# Altium footprint library Relay.PcbLib: 14 footprints
Each footprint in its own frame and in the unit in brackets; x right, y up, seen from the top. Pads: shape width x height; smd on the part's side, far side on the other; paste and mask are expansions set on the pad; w line width, h text height; cw(c..) or ccw(c..) is an arc to the next point about the centre after c.
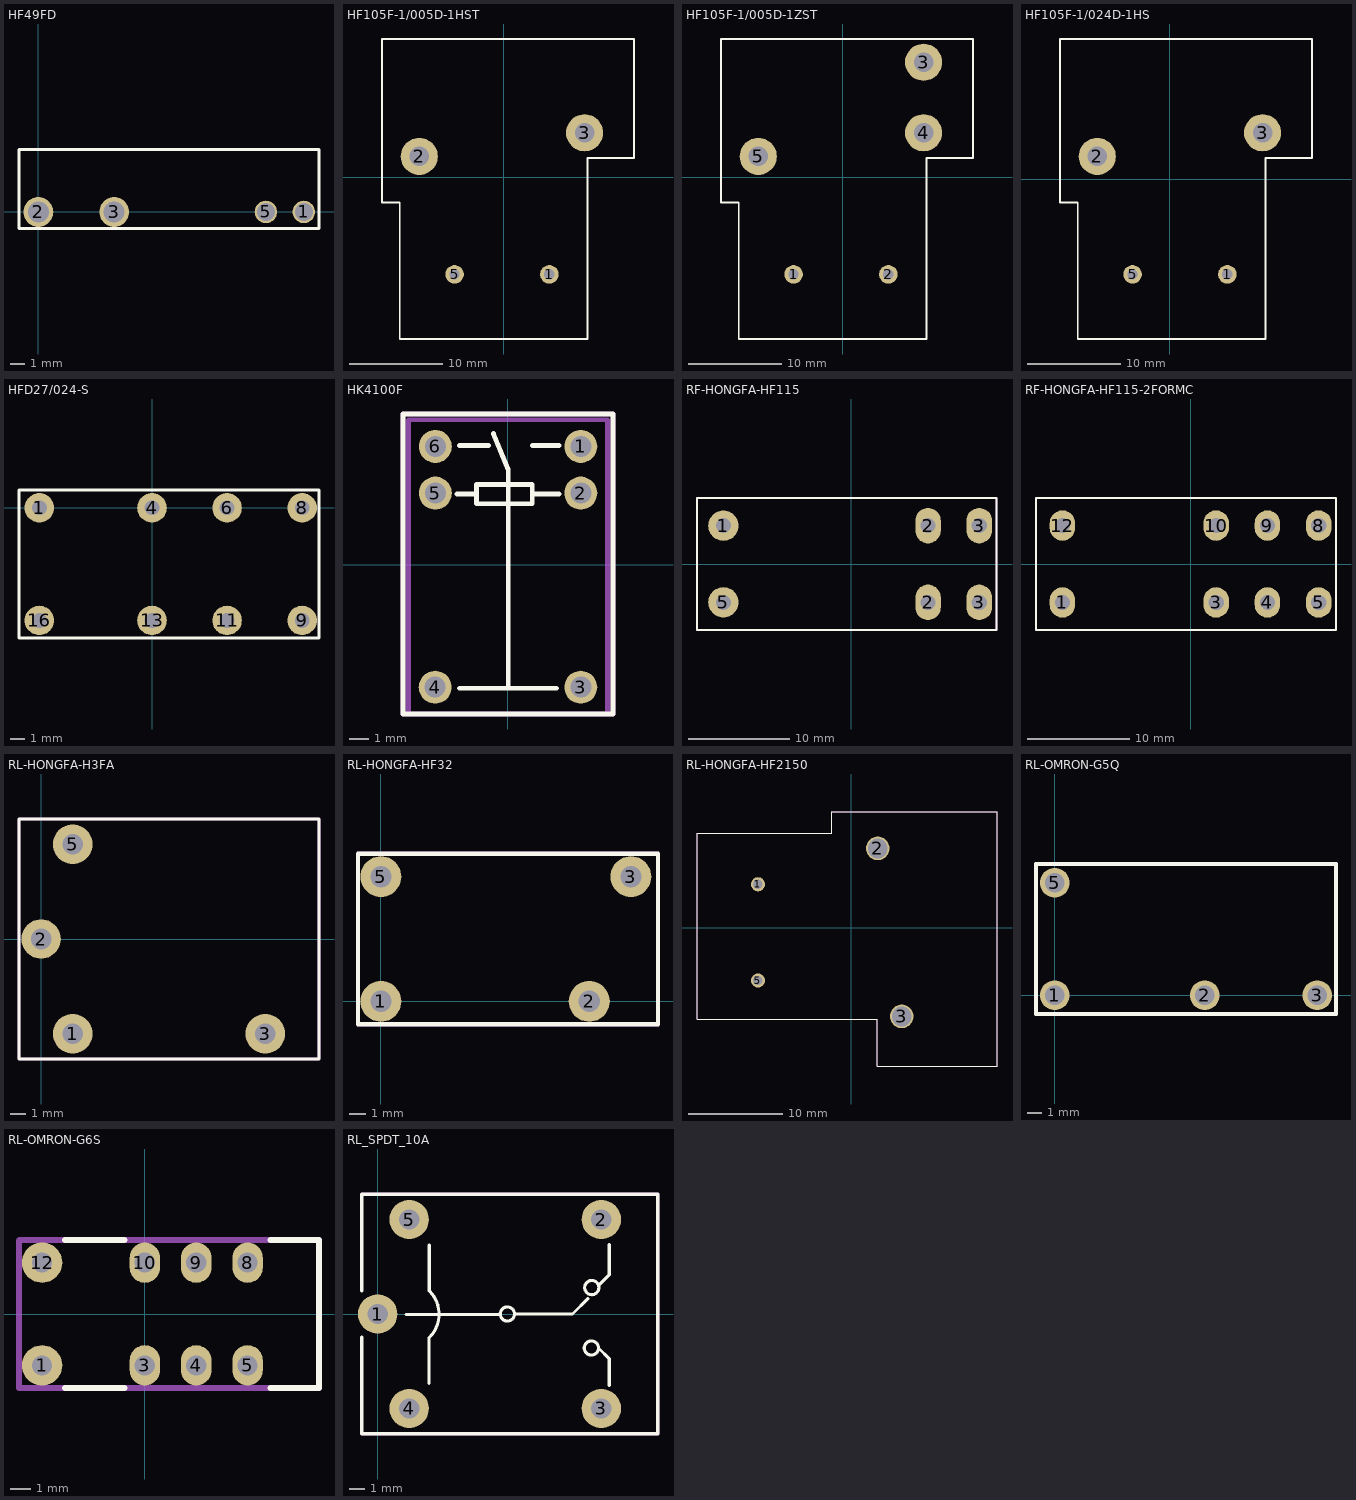
[diagram p0: the footprints below, top view; thin cyan lines are the x and y axes]

## HF49FD [mm]
pads (4):
  round 1.5 hole 1.2: 1(17.78,0) 5(15.24,0)
  round 2 hole 1.4: 2(0,0) 3(5.08,0)
Top Overlay:
  lines w0.2: -1.295,-1.118 -1.092,-1.118 18.796,-1.118 18.796,4.191 -1.295,4.191 -1.295,4.064 -1.295,-1.118
3D body "hf49_3d.step": height 13, standoff -2.4, extent -1.245,-0.914 18.755,4.096

## HF105F-1/005D-1HST [mm]
pads (4):
  round 2 hole 1.1: 1(4.9,-10.44) 5(-5.3,-10.44)
  round 4 hole 2.1: 2(-9.1,2.26) 3(8.7,4.8)
Top Overlay:
  lines w0.2: -13.1,-2.7 -13.1,14.9 14,14.9 14,2.1 9,2.1 9,-17.4 -11.2,-17.4 -11.2,-2.7 -13.1,-2.7
3D body "hf2150.stp": height 19.1, standoff -3.6, extent -13.1,-16.85 13.9,14.95

## HF105F-1/005D-1ZST [mm]
pads (5):
  round 2 hole 1.1: 1(-5.3,-10.44) 2(4.9,-10.44)
  round 4 hole 2.1: 3(8.7,12.4) 4(8.7,4.8) 5(-9.1,2.26)
Top Overlay:
  lines w0.2: -13.1,-2.7 -11.2,-2.7 -11.2,-17.4 9,-17.4 9,2.1 14,2.1 14,14.9 -13.1,14.9 -13.1,-2.7
3D body "hf2150.stp": height 19.1, standoff -3.6, extent -13.1,-16.85 13.9,14.95

## HF105F-1/024D-1HS [mm]
pads (4):
  round 2 hole 1.1: 1(6.2,-10.24) 5(-4,-10.24)
  round 4 hole 2.1: 2(-7.8,2.46) 3(10,5)
Top Overlay:
  lines w0.2: -11.8,-2.5 -9.9,-2.5 -9.9,-17.2 10.3,-17.2 10.3,2.3 15.3,2.3 15.3,15.1 -11.8,15.1 -11.8,-2.5
3D body "hf2150.stp": height 19.1, standoff -3.6, extent -11.8,-16.65 15.2,15.15

## HFD27/024-S [mm]
pads (8):
  round 2 hole 1: 1(-7.62,0) 4(0,0) 6(5.08,0) 8(10.16,0) 9(10.16,-7.62) 11(5.08,-7.62) 13(0,-7.62) 16(-7.62,-7.62)
Top Overlay:
  lines w0.2: -9,-8.8 -9,1.2 11.3,1.2 11.3,-8.8 -9,-8.8
3D body "User Library-HFD27.STEP": height 11.52, standoff -3.09, extent -8.9,-8.8 11.3,1.2

## HK4100F [mil]
pads (6):
  round 68 hole 43.31 paste+0 mask+2: 1(150.67,243.88) 2(150.67,147.78) 3(150.67,-252.22) 4(-149.33,-252.22) 5(-149.03,147.78) 6(-148.93,243.88)
Top Overlay:
  lines w10: -215.83,310.79 -215.83,-307.32 217.24,-307.32 ; -215.82,310.74 217.25,310.74 217.25,-307.37 ; -104.33,145.83 -69.33,145.83 ; -99.33,-254.17 100.67,-254.17 ; -99.33,245.83 -39.33,245.83 ; -29.33,270.83 1.12,195.83 1.12,-254.17 ; 50.67,245.83 105.67,245.83 ; 55.67,145.83 105.67,145.83 ; -64.33,125.83 50.67,125.83 50.67,165.83 -64.33,165.83 -64.33,125.83
Mechanical 13:
  lines w10: -204.06,-307.32 205.39,-307.32 205.39,298.98 -204.06,298.98 -204.06,-307.32
Mechanical 15:
  lines w10: -215.83,-307.37 217.25,-307.37 217.25,310.74 217.25,310.79 -215.83,310.79 -215.83,-307.37
3D body "User Library-HK4100F.step": height 465.46, standoff -107.77, extent -204.06,-307.32 205.39,298.98

## RF-HONGFA-HF115 [mm]
pads (6):
  round 3 hole 1.5: 1(-12.6,3.78) 5(-12.6,-3.78)
  oval 2.5x3.5 hole 1.5: 2(7.56,-3.78) 2(7.56,3.78) 3(12.6,-3.78) 3(12.6,3.78)
Top Overlay:
  lines w0.2: -15.2,-6.5 -15.2,6.5 14.3,6.5 14.3,-6.5 -15.2,-6.5
Mechanical 13:
  lines w0.2: -15.2,-6.5 -15.2,6.5 14.3,6.5 14.3,-6.5 -15.2,-6.5
  text ".Designator" at -3.6,-0.216 h1.5
3D body "User Library-JQX-115F HF115F.step": height 15.8, standoff -3.3, extent -15.1,-6.35 13.9,6.35

## RF-HONGFA-HF115-2FORMC [mm]
pads (8):
  oval 2.5x3 hole 1.5: 1(-12.6,-3.78) 3(2.52,-3.78) 4(7.56,-3.78) 5(12.6,-3.78) 8(12.6,3.78) 9(7.56,3.78) 10(2.52,3.78) 12(-12.6,3.78)
Top Overlay:
  lines w0.2: -15.2,-6.5 -15.2,6.5 14.3,6.5 14.3,-6.5 -15.2,-6.5
3D body: height 15.7, standoff 0, extent -15.1,-6.5 14.3,6.5

## RL-HONGFA-H3FA [mm]
pads (4):
  round 2.5 hole 1.3: 1(2,-6) 2(0,0) 3(14.2,-6) 5(2,6)
Top Overlay:
  lines w0.2: -1.4,-7.6 17.6,-7.6 17.6,7.6 -1.4,7.6 -1.4,-7.6
Mechanical 13:
  lines w0.2: -1.4,-7.6 -1.4,7.6 17.6,7.6 17.6,-7.6 -1.4,-7.6
  text ".Designator" at 0,-0.1 h2
Mechanical 15:
  lines w0.2: -1.4,-7.6 -1.4,7.6 17.6,7.6 17.6,-7.6 -1.4,-7.6
  text ".Comment" at 0,-0.1 h2
3D body: height 15.2, standoff 0, extent -1.4,-7.6 17.6,7.6

## RL-HONGFA-HF32 [mm]
pads (4):
  round 2.5 hole 1.3: 1(0,0) 2(12.7,0) 3(15.24,7.6) 5(0,7.6)
Top Overlay:
  lines w0.254: -1.397,-1.4 16.891,-1.4 16.891,9 -1.397,9 -1.397,-1.4
Mechanical 13:
  lines w0.254: -1.397,-1.4 16.891,-1.4 16.891,9 -1.397,9 -1.397,-1.4
  text ".Designator" at 0.762,2.794 h3
Mechanical 15:
  lines w0.254: -1.397,-1.4 16.891,-1.4 16.891,9 -1.397,9 -1.397,-1.4
  text ".Comment" at 0.762,2.794 h3
3D body "HF32FV-G[1].stp": height 15.82, standoff -3.48, extent -1.5,-1.3 16.9,8.9

## RL-HONGFA-HF2150 [mm]
pads (4):
  round 1.5 hole 1: 1(-9.9,4.6) 5(-9.9,-5.6)
  round 2.5 hole 2.1: 2(2.8,8.4) 3(5.34,-9.4)
Top Overlay:
  lines w0.1: -16.36,-9.7 2.74,-9.7 2.74,-14.7 15.44,-14.7 15.44,12.3 -2.06,12.3 -2.06,10 -16.36,10 -16.36,-9.7
Mechanical 13:
  lines w0.1: -16.36,-9.7 -16.36,10 -2.06,10 -2.06,12.3 15.44,12.3 15.44,-14.7 2.74,-14.7 2.74,-9.7 -16.36,-9.7
  text ".Designator" at -3.1,-0.6 h1.5
Mechanical 15:
  lines w0.1: -16.36,-9.7 -16.36,10 -2.06,10 -2.06,12.3 15.44,12.3 15.44,-14.7 2.74,-14.7 2.74,-9.7 -16.36,-9.7
  text ".Value" at -3.1,-0.7 h1.5
3D body: height 19.1, standoff 0, extent -16.4,-14.7 15.5,12.3

## RL-OMRON-G5Q [mm]
pads (4):
  round 2 hole 1.3: 1(0,0) 2(10.16,0) 3(17.78,0) 5(0,7.62)
Top Overlay:
  lines w0.254: -1.27,-1.27 19.05,-1.27 19.05,8.89 -1.27,8.89 -1.27,-1.27
Mechanical 13:
  lines w0.254: -1.27,-1.27 -1.27,8.89 19.05,8.89 19.05,-1.27 -1.27,-1.27
  text ".Designator" at 0.254,2.54 h4.5
Mechanical 15:
  lines w0.254: -1.27,-1.27 -1.27,8.89 19.05,8.89 19.05,-1.27 -1.27,-1.27
  text ".Comment" at 0.254,2.54 h4.5
3D body "G5Q_1A4.step": height 16.2, standoff -3.4, extent -1.33,-1.34 18.97,8.96

## RL-OMRON-G6S [mm]
pads (8):
  round 2 hole 1: 1(-5.08,-2.54) 12(-5.08,2.54)
  oval 1.5x2 hole 1: 3(0,-2.54) 4(2.54,-2.54) 5(5.08,-2.54) 8(5.08,2.54) 9(2.54,2.54) 10(0,2.54)
Top Overlay:
  lines w0.3: -3.937,-3.658 -1.016,-3.658 ; -3.937,3.658 -1.016,3.658 ; 6.223,-3.658 8.611,-3.658 8.611,3.658 6.223,3.658
Mechanical 13:
  lines w0.3: -6.223,-3.658 8.611,-3.658 8.611,3.658 -6.198,3.658 -6.223,3.632 -6.223,-3.658
  text ".Designator" at -6.045,-0.711 h2.5
Mechanical 15:
  lines w0.3: -6.223,-3.658 -6.223,3.632 -6.198,3.658 8.611,3.658 8.611,-3.658 -6.223,-3.658
  text ".Comment" at -6.045,-0.711 h2.5
3D body "G6S_2.step": height 9.2, standoff -2.95, extent -6.181,-3.65 8.619,3.65

## RL_SPDT_10A [mm] "Relay SPDT, 5 pin, 10A,W 650mil, L 800mil, H 800mil"
height 20.32
pads (5):
  round 2.5 hole 1.3: 1(0,0) 2(14.2,6) 3(14.2,-6) 4(2,-6) 5(2,6)
Top Overlay:
  circle w0.2: c13.569,-2.159 r0.452
  circle w0.2: c13.594,1.676 r0.452
  circle w0.2: c8.235,0 r0.452
  lines w0.2: -1.016,-1.473 -1.016,-7.6 17.78,-7.6 17.78,7.6 -1.016,7.6 -1.016,1.473 ; 1.803,-0.025 7.722,-0.025 ; 3.251,-4.394 3.251,-1.524 ; 3.277,-1.499 ccw(c1.816,-0.013) 3.302,1.448 ; 3.277,1.473 3.277,4.369 ; 8.738,0 12.37,0 13.36,0.991 ; 14.021,-2.159 14.707,-2.845 14.707,-4.521 ; 14.046,1.829 14.707,2.489 14.707,4.42
Mechanical 13:
  lines w0.2: -1,-7.6 17.8,-7.6 17.8,7.6 -1,7.6
  text ".Designator" at 5.5,-0.316 h1.5
3D body "hf3fa-w.stp": height 15.7, standoff -4.3, extent -1.034,-7.6 17.766,7.6